# EAGLE library part 52806-3010 (library 52806-3010)
Molex 52806 Series 1mm Pitch 30 Way 1 Row Straight FPC Connector, Tin Plated Contacts Source: Datasheet <https://www.molex.com/pdm_docs/sd/528063010_sd.pdf>
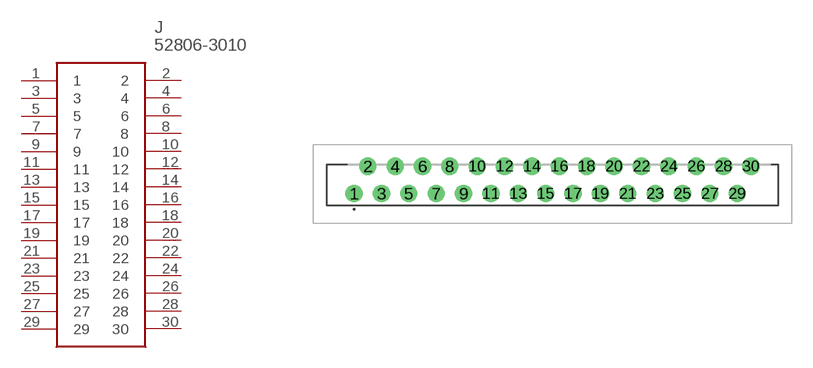
[diagram p0: symbol with the pads of 528063010; footprint 528063010]

Designator prefix J

## 52806-3010 (Description: Molex 52806 Series 1mm Pitch 30 Way 1 Row Straight FPC Connector, Tin Plated Contacts; Height: 5.65mm; Manufacturer_Name: Molex; Manufacturer_Part_Number: 52806-3010; Mouser_Part_Number: 538-52806-3010; Mouser_Price-Stock: https://www.mouser.co.uk/ProductDetail/Molex/52806-3010?qs=dfAUs5lFDTbuJCN6JtgoPg%3D%3D)  [528063010]
1  1
2  2
3  3
4  4
5  5
6  6
7  7
8  8
9  9
10  10
11  11
12  12
13  13
14  14
15  15
16  16
17  17
18  18
19  19
20  20
21  21
22  22
23  23
24  24
25  25
26  26
27  27
28  28
29  29
30  30

## Footprint 528063010 (pad centres in mm)
52806-3010-1
drill 0.75 pad 1.2: 1 0,0; 2 1,2; 3 2,0; 4 3,2; 5 4,0; 6 5,2; 7 6,0; 8 7,2; 9 8,0; 10 9,2; 11 10,0; 12 11,2; 13 12,0; 14 13,2; 15 14,0; 16 15,2; 17 16,0; 18 17,2; 19 18,0; 20 19,2; 21 20,0; 22 21,2; 23 22,0; 24 23,2; 25 24,0; 26 25,2; 27 26,0; 28 27,2; 29 28,0; 30 29,2